# Altium footprint library SparkFun-Electromechanical.PCBLIB: 151 footprints (part 8 of 11)
Each footprint in its own frame and in the unit in brackets; x right, y up, seen from the top. Pads: shape width x height; smd on the part's side, far side on the other; paste and mask are expansions set on the pad; w line width, h text height; cw(c..) or ccw(c..) is an arc to the next point about the centre after c.
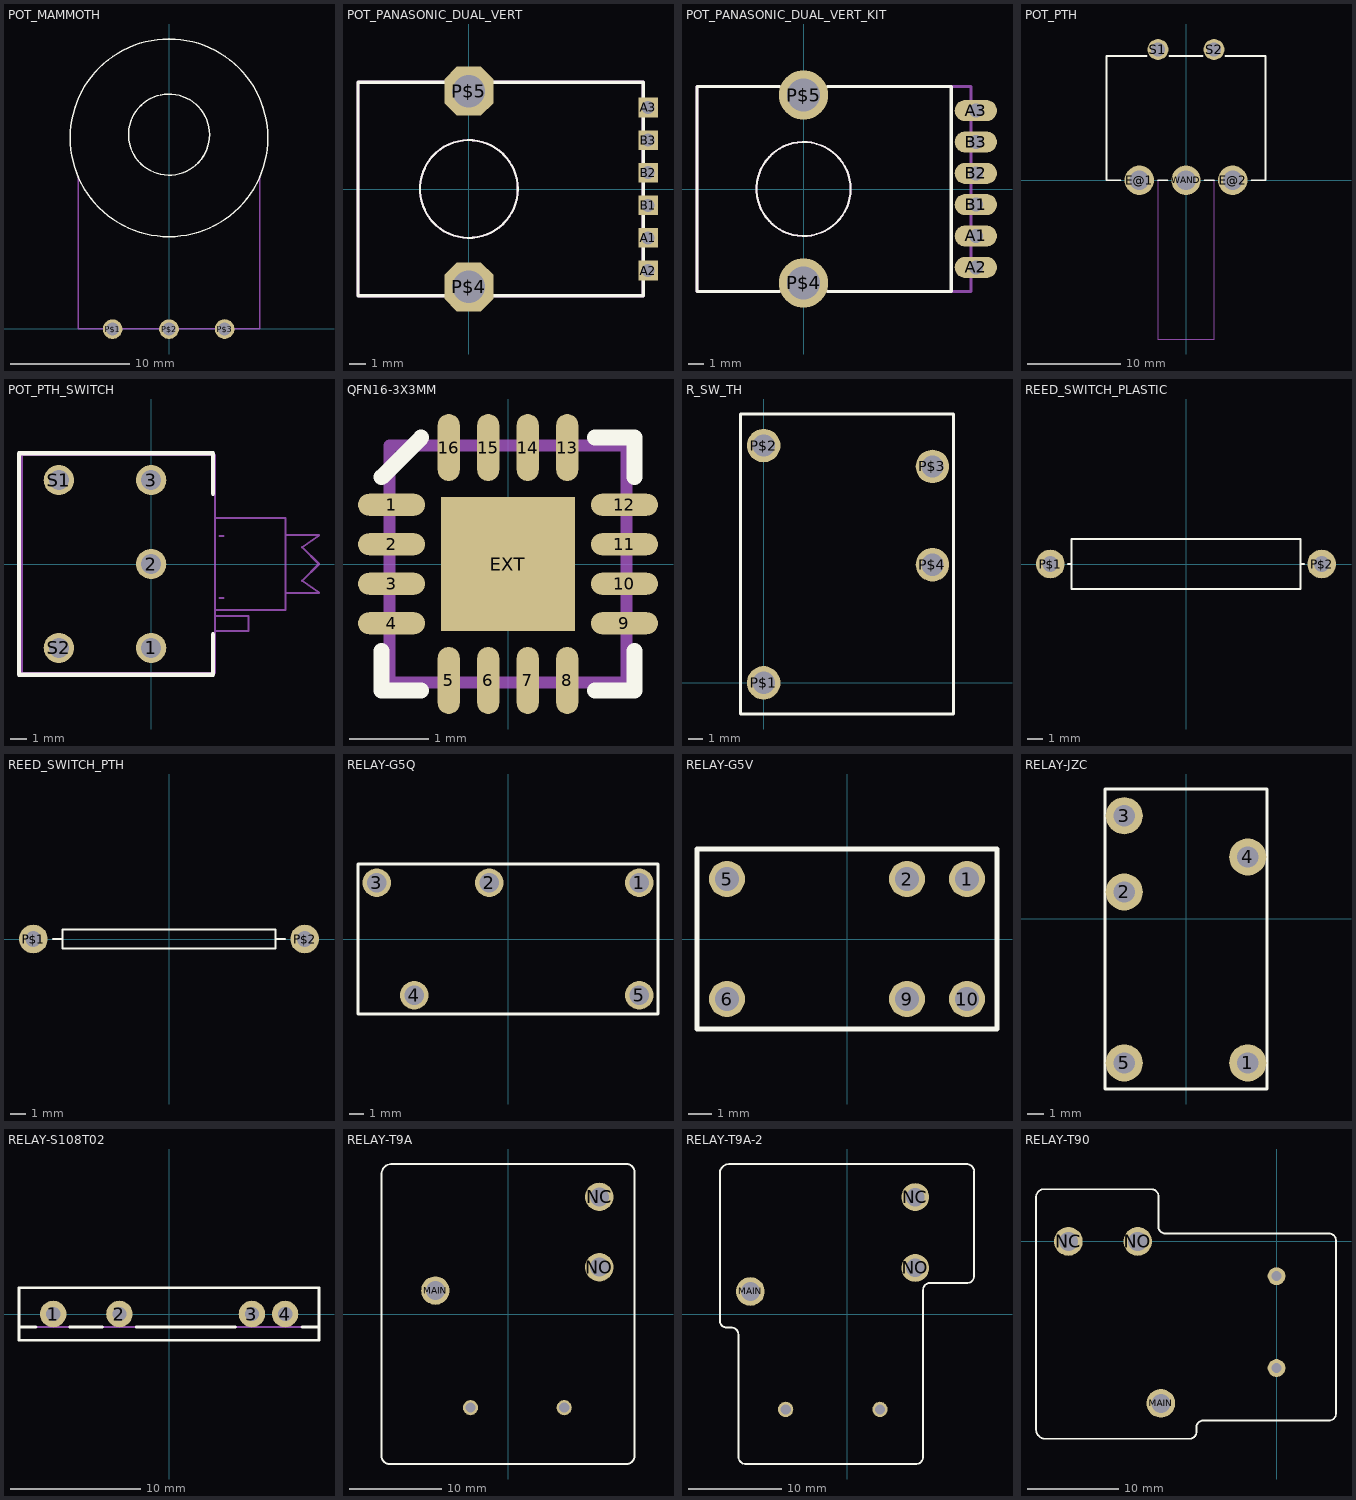
[diagram p7: the footprints below, top view; thin cyan lines are the x and y axes]

## POT_MAMMOTH [mm]
pads (3):
  round 1.65 hole 1.1: P$1(-4.73,-0.02) P$2(0,-0.02) P$3(4.67,-0.01)
Top Overlay:
  circle w0.127: c0,16.03 r8.293
  circle w0.127: c0,16.3 r3.4
Mechanical 16:
  lines w0.127: -7.62,0 0,0 7.62,0 ; -7.62,0.03 -7.62,12.75 ; 7.62,0.03 7.62,12.75

## POT_PANASONIC_DUAL_VERT [mm]
pads (8):
  rect 1.2x1.2 hole 0.8: A1(11,-3) A2(11,-5) A3(11,5) B1(11,-1) B2(11,1) B3(11,3)
  oct 3x3 hole 2: P$4(0,-6) P$5(0,6)
Top Overlay:
  circle w0.127: c0,0 r3
  lines w0.203: -6.8,-6.55 10.7,-6.55 10.7,6.55 -6.8,6.55 -6.8,-6.55
Mechanical 16:
  circle w0.127: c0,0 r3
  lines w0.203: -6.8,-6.55 10.7,-6.55 10.7,6.55 -6.8,6.55 -6.8,-6.55

## POT_PANASONIC_DUAL_VERT_KIT [mm]
pads (8):
  oval 2.7x1.35 hole 0.9: A1(11,-3) A2(11,-5) A3(11,5) B1(11,-1) B2(11,1) B3(11,3)
  round 3.15 hole 2.1: P$4(0,-6) P$5(0,6)
Top Overlay:
  circle w0.127: c0,0 r3
  lines w0.203: -1.55,-6.55 -6.8,-6.55 -6.8,6.55 -1.55,6.55 ; 1.55,-6.55 9.43,-6.55 9.43,6.55 1.55,6.55
Top Solder:
  circle w0: c0,6 r1.05
  circle w0: c0,-6 r1.05
  circle w0: c11,5 r0.45
  circle w0: c11,3 r0.45
  circle w0: c11,1 r0.45
  circle w0: c11,-1 r0.45
  circle w0: c11,-3 r0.45
  circle w0: c11,-5 r0.45
Bottom Solder:
  circle w0: c0,6 r1.626
  circle w0: c0,-6 r1.626
  region: 0,0 0.254,0 0.254,0.254 0,0.254
  region: 0,0 0.254,0 0.254,0.254 0,0.254
  region: 0,0 0.254,0 0.254,0.254 0,0.254
  region: 0,0 0.254,0 0.254,0.254 0,0.254
  region: 0,0 0.254,0 0.254,0.254 0,0.254
  region: 0,0 0.254,0 0.254,0.254 0,0.254
Mechanical 16:
  circle w0.127: c0,0 r3
  lines w0.203: -6.8,-6.55 10.7,-6.55 10.7,6.55 -6.8,6.55 -6.8,-6.55

## POT_PTH [mm]
pads (5):
  round 3.15 hole 2.1: E@1(-5,0) E@2(5,0) WAND(0,0)
  round 2.25 hole 1.5: S1(-3,14) S2(3,14)
Top Overlay:
  lines w0.203: -7,0 -8.5,0 -8.5,13.3 -4.25,13.3 ; -3,0 -2,0 ; -1.75,13.3 1.75,13.3 ; 2,0 3,0 ; 4.25,13.3 8.5,13.3 8.5,0 7,0
Mechanical 16:
  lines w0.127: -3,0 -3,-17 3,-17 3,0

## POT_PTH_SWITCH [mm]
pads (5):
  round 1.8 hole 1.2: 1(0,-5) 2(0,0) 3(0,5) S1(-5.5,5) S2(-5.5,-5)
Top Overlay:
  lines w0.254: 3.683,-4.191 3.683,-6.604 -7.874,-6.604 -7.874,6.604 3.683,6.604 3.683,4.191
Mechanical 16:
  lines w0.127: 4.064,-2.016 4.318,-2.016 ; 4.064,1.667 4.318,1.667 ; 10,-1.73 8,-1.73 ; 10,-1.7 9,-1 10,0 9,1 10,1.7 ; 10,1.73 8,1.73 ; 3.8,-4 3.8,-3.1 ; 3.8,-4 3.8,-6.5 -7.7,-6.5 -7.7,6.5 3.8,6.5 3.8,2.73 ; 3.8,-4 5.8,-4 5.8,-3.1 3.8,-3.1 ; 3.8,-3.1 3.8,-2.73 ; 3.8,-2.73 3.8,2.73 ; 3.8,-2.73 8,-2.73 ; 3.8,2.73 8,2.73 ; 8,-2.73 8,-1.73 ; 8,-2.73 8,-1.73 ; 8,-2.73 8,-1.73 ; 8,-1.73 8,1.73 ; 8,1.73 8,2.73 ; 8,1.73 8,2.73 ; 8,1.73 8,2.73
  text "mounting surface" at 4.699,-2.27 h0.63
  text "*2.8mm diameter x 2mm tab at 9 o'clock (from front)" at 6.28,-3.72 h0.63

## QFN16-3X3MM [mil]
pads (17):
  rrect100% 33.46x11.02 smd: 1(-58.07,29.53) 2(-58.07,9.84) 3(-58.07,-9.84) 4(-58.07,-29.53) 9(58.07,-29.53) 10(58.07,-9.84) 11(58.07,9.84) 12(58.07,29.53)
  rrect100% 11.02x33.46 smd: 5(-29.53,-58.07) 6(-9.84,-58.07) 7(9.84,-58.07) 8(29.53,-58.07) 13(29.53,58.07) 14(9.84,58.07) 15(-9.84,58.07) 16(-29.53,58.07)
  rect 66.93x66.93 smd: EXT(0,0)
Top Overlay:
  lines w8: -62.99,-43.31 -62.99,-62.99 -43.31,-62.99 ; -62.99,43.31 -43.31,62.99 ; 43.31,-62.99 62.99,-62.99 62.99,-43.31 ; 43.31,62.99 62.99,62.99 62.99,43.31
Top Paste:
  rectangle: -23.62,5.91 -5.91,23.62
  rectangle: 5.91,5.91 23.62,23.62
  rectangle: 5.91,-23.62 23.62,-5.91
  rectangle: -23.62,-23.62 -5.91,-5.91
  lines w8: -70.87,-29.53 -45.28,-29.53 ; -70.87,-9.84 -45.28,-9.84 ; -70.87,9.84 -45.28,9.84 ; -70.87,29.53 -45.28,29.53 ; -29.53,-70.87 -29.53,-45.28 ; -29.53,45.28 -29.53,70.87 ; -9.84,-70.87 -9.84,-45.28 ; -9.84,45.28 -9.84,70.87 ; 9.84,-70.87 9.84,-45.28 ; 9.84,45.28 9.84,70.87 ; 29.53,-70.87 29.53,-45.28 ; 29.53,45.28 29.53,70.87 ; 45.28,-29.53 70.87,-29.53 ; 45.28,-9.84 70.87,-9.84 ; 45.28,9.84 70.87,9.84 ; 45.28,29.53 70.87,29.53
Mechanical 16:
  lines w6: -59.06,-59.06 -59.06,59.06 59.06,59.06 59.06,-59.06 -59.06,-59.06

## R_SW_TH [mil]
pads (4):
  round 94.5 hole 63: P$1(0,0) P$2(0,669) P$3(476,610) P$4(476,333)
Top Overlay:
  lines w8: -65,-88 -65,-54 -65,758 535,758 535,-88 -65,-88

## REED_SWITCH_PLASTIC [mil]
pads (2):
  round 74 hole 40: P$1(-350,0) P$2(350,0)
Top Overlay:
  lines w5: -303.94,0 -295.28,0 ; 303.94,0 295.28,0 ; -295.28,0 -295.28,-64.96 295.28,-64.96 295.28,0 ; -295.28,0 -295.28,64.96 295.28,64.96 295.28,0

## REED_SWITCH_PTH [mil]
pads (2):
  round 74 hole 40: P$1(-350,0) P$2(350,0)
Top Overlay:
  lines w5: -300,0 -275,0 ; 300,0 275,0 ; -275,0 -275,-25 275,-25 275,0 ; -275,0 -275,25 275,25 275,0

## RELAY-G5Q [mil]
pads (5):
  round 76.77 hole 51.18: 1(350,150) 2(-50,150) 3(-350,150) 4(-250,-150) 5(350,-150)
Top Overlay:
  lines w8: -400,-200 400,-200 400,200 -400,200 -400,-200

## RELAY-G5V [mil]
pads (6):
  round 60 hole 40: 1(200,100) 2(100,100) 5(-200,100) 6(-200,-100) 9(100,-100) 10(200,-100)
Top Overlay:
  lines w8: -250,-150 250,-150 250,150 -250,150 -250,-150

## RELAY-JZC [mil]
pads (5):
  round 90 hole 51.18: 1(150,-350) 2(-150,65) 3(-150,250) 4(150,150) 5(-150,-350)
Top Overlay:
  lines w8: -196.85,-413.39 196.85,-413.39 196.85,314.96 -196.85,314.96 -196.85,-413.39

## RELAY-S108T02 [mil]
pads (4):
  round 80 hole 43.31: 1(-349.61,0) 2(-149.61,0) 3(250.39,0) 4(350.39,0)
Top Overlay:
  lines w8: -401.57,-39.37 -452.76,-39.37 ; -299.21,-39.37 -200.79,-39.37 ; -98.43,-39.37 200.79,-39.37 ; 401.57,-39.37 452.76,-39.37 ; -452.76,-39.37 -452.76,-78.74 452.76,-78.74 452.76,-39.37 ; -452.76,-39.37 -452.76,78.74 452.76,78.74 452.76,-39.37
Mechanical 16:
  lines w5: -452.76,-39.37 452.76,-39.37

## RELAY-T9A [mil]
pads (5):
  round 64.5 hole 43: COIL1(-160,-400) COIL2(240,-400)
  round 121.5 hole 81: MAIN(-310,100) NC(390,500) NO(390,200)
Top Overlay:
  lines w8: -540,-600 -540,600 cw(c-497.5,597.5) -500,640 500,640 cw(c505,605) 540,600 540,-600 cw(c505,-605) 500,-640 -500,-640 cw(c-505,-605) -540,-600

## RELAY-T9A-2 [mm]
pads (5):
  round 1.65 hole 1.1: COIL1(-6.61,-10.27) COIL2(3.55,-10.27)
  round 3.086 hole 2.057: MAIN(-10.41,2.43)
  round 3 hole 2: NC(7.35,12.6) NO(7.35,4.97)
Top Overlay:
  lines w0.203: -13.7,-0.7 -13.7,15.24 cw(c-12.688,15.133) -12.7,16.15 12.7,16.15 cw(c12.859,15.32) 13.7,15.24 13.7,4.1 cw(c12.928,4.119) 13,3.35 8.9,3.35 ccw(c8.972,2.581) 8.2,2.6 8.2,-15.4 cw(c7.428,-15.381) 7.5,-16.15 -11,-16.15 cw(c-10.917,-15.358) -11.7,-15.5 -11.7,-2.2 ccw(c-12.472,-2.219) -12.4,-1.45 -13,-1.45 cw(c-12.984,-0.734) -13.7,-0.7

## RELAY-T90 [mil]
pads (5):
  round 77 hole 43.31: COIL1(0,-547.24) COIL2(0,-150)
  round 124.02 hole 82.68: MAIN(-500,-700) NC(-900,0) NO(-600,0)
Top Overlay:
  lines w8: -1039.76,-813.58 -1039.76,186.42 cw(c-1005.33,191.08) -1003.94,225.79 -540.35,225.79 cw(c-541.09,195.4) -510.83,198.23 -510.83,61.81 ccw(c-480.56,64.64) -481.3,34.25 227.36,34.25 cw(c226.62,3.86) 256.89,6.69 256.89,-746.65 cw(c225.72,-743.37) 231.3,-774.21 -317.32,-774.21 ccw(c-316.58,-804.6) -346.85,-801.77 -346.85,-825.39 cw(c-375.06,-824.76) -376.38,-852.95 -1003.94,-852.95 cw(c-999.71,-813.12) -1039.76,-813.58